# Altium footprint library PCB - CONNECTOR - SWITCHCRAFT - SWITCHCRAFT PC712A.PCBLIB: 1 footprints
Each footprint in its own frame and in the unit in brackets; x right, y up, seen from the top. Pads: shape width x height; smd on the part's side, far side on the other; paste and mask are expansions set on the pad; w line width, h text height; cw(c..) or ccw(c..) is an arc to the next point about the centre after c.
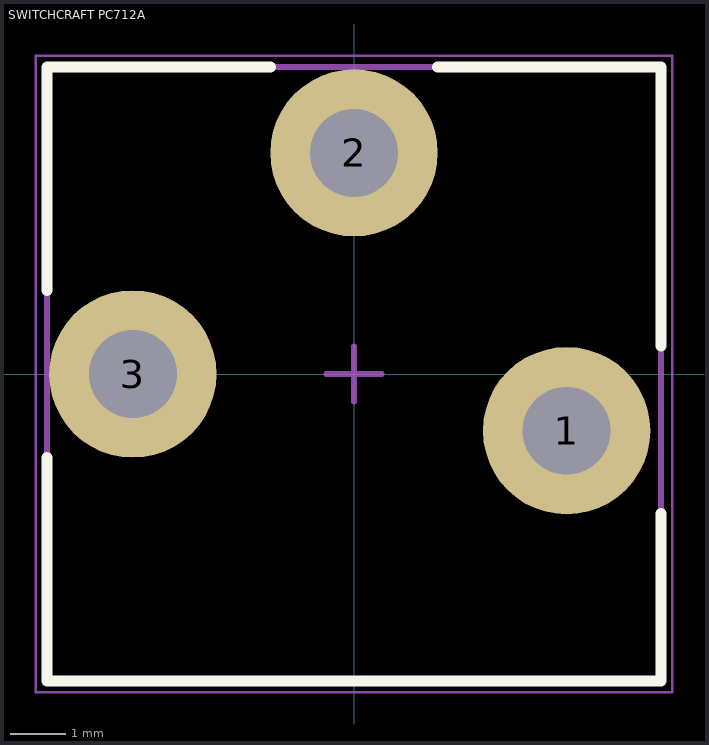
[diagram p0: the footprint, top view; thin cyan lines are the x and y axes]

## SWITCHCRAFT PC712A [mm]
height 16.81
pads (3):
  round 3 hole 1.575: 1(3.81,-1.016) 2(0,3.962) 3(-3.962,0)
Top Overlay:
  lines w0.2: -5.5,-1.5 -5.5,-5.5 5.5,-5.5 5.5,-2.5 ; -5.5,1.5 -5.5,5.5 -1.5,5.5 ; 1.5,5.5 5.5,5.5 5.5,0.5
Mechanical 13:
  lines w0.1: -5.5,-5.5 -5.5,5.5 5.5,5.5 5.5,-5.5 -5.5,-5.5
Mechanical 15:
  lines w0.05: -5.7,-5.7 5.7,-5.7 5.7,5.7 -5.7,5.7 -5.7,-5.7
  lines w0.1: -0.5,0 0.5,0 ; 0,-0.5 0,0.5
3D body "Switchcraft PC712A.step": height 16.84, standoff -4, extent -5.512,-5.512 5.512,5.512